# EAGLE library part STM32L476JGY7 (library circuit_tree)
IC
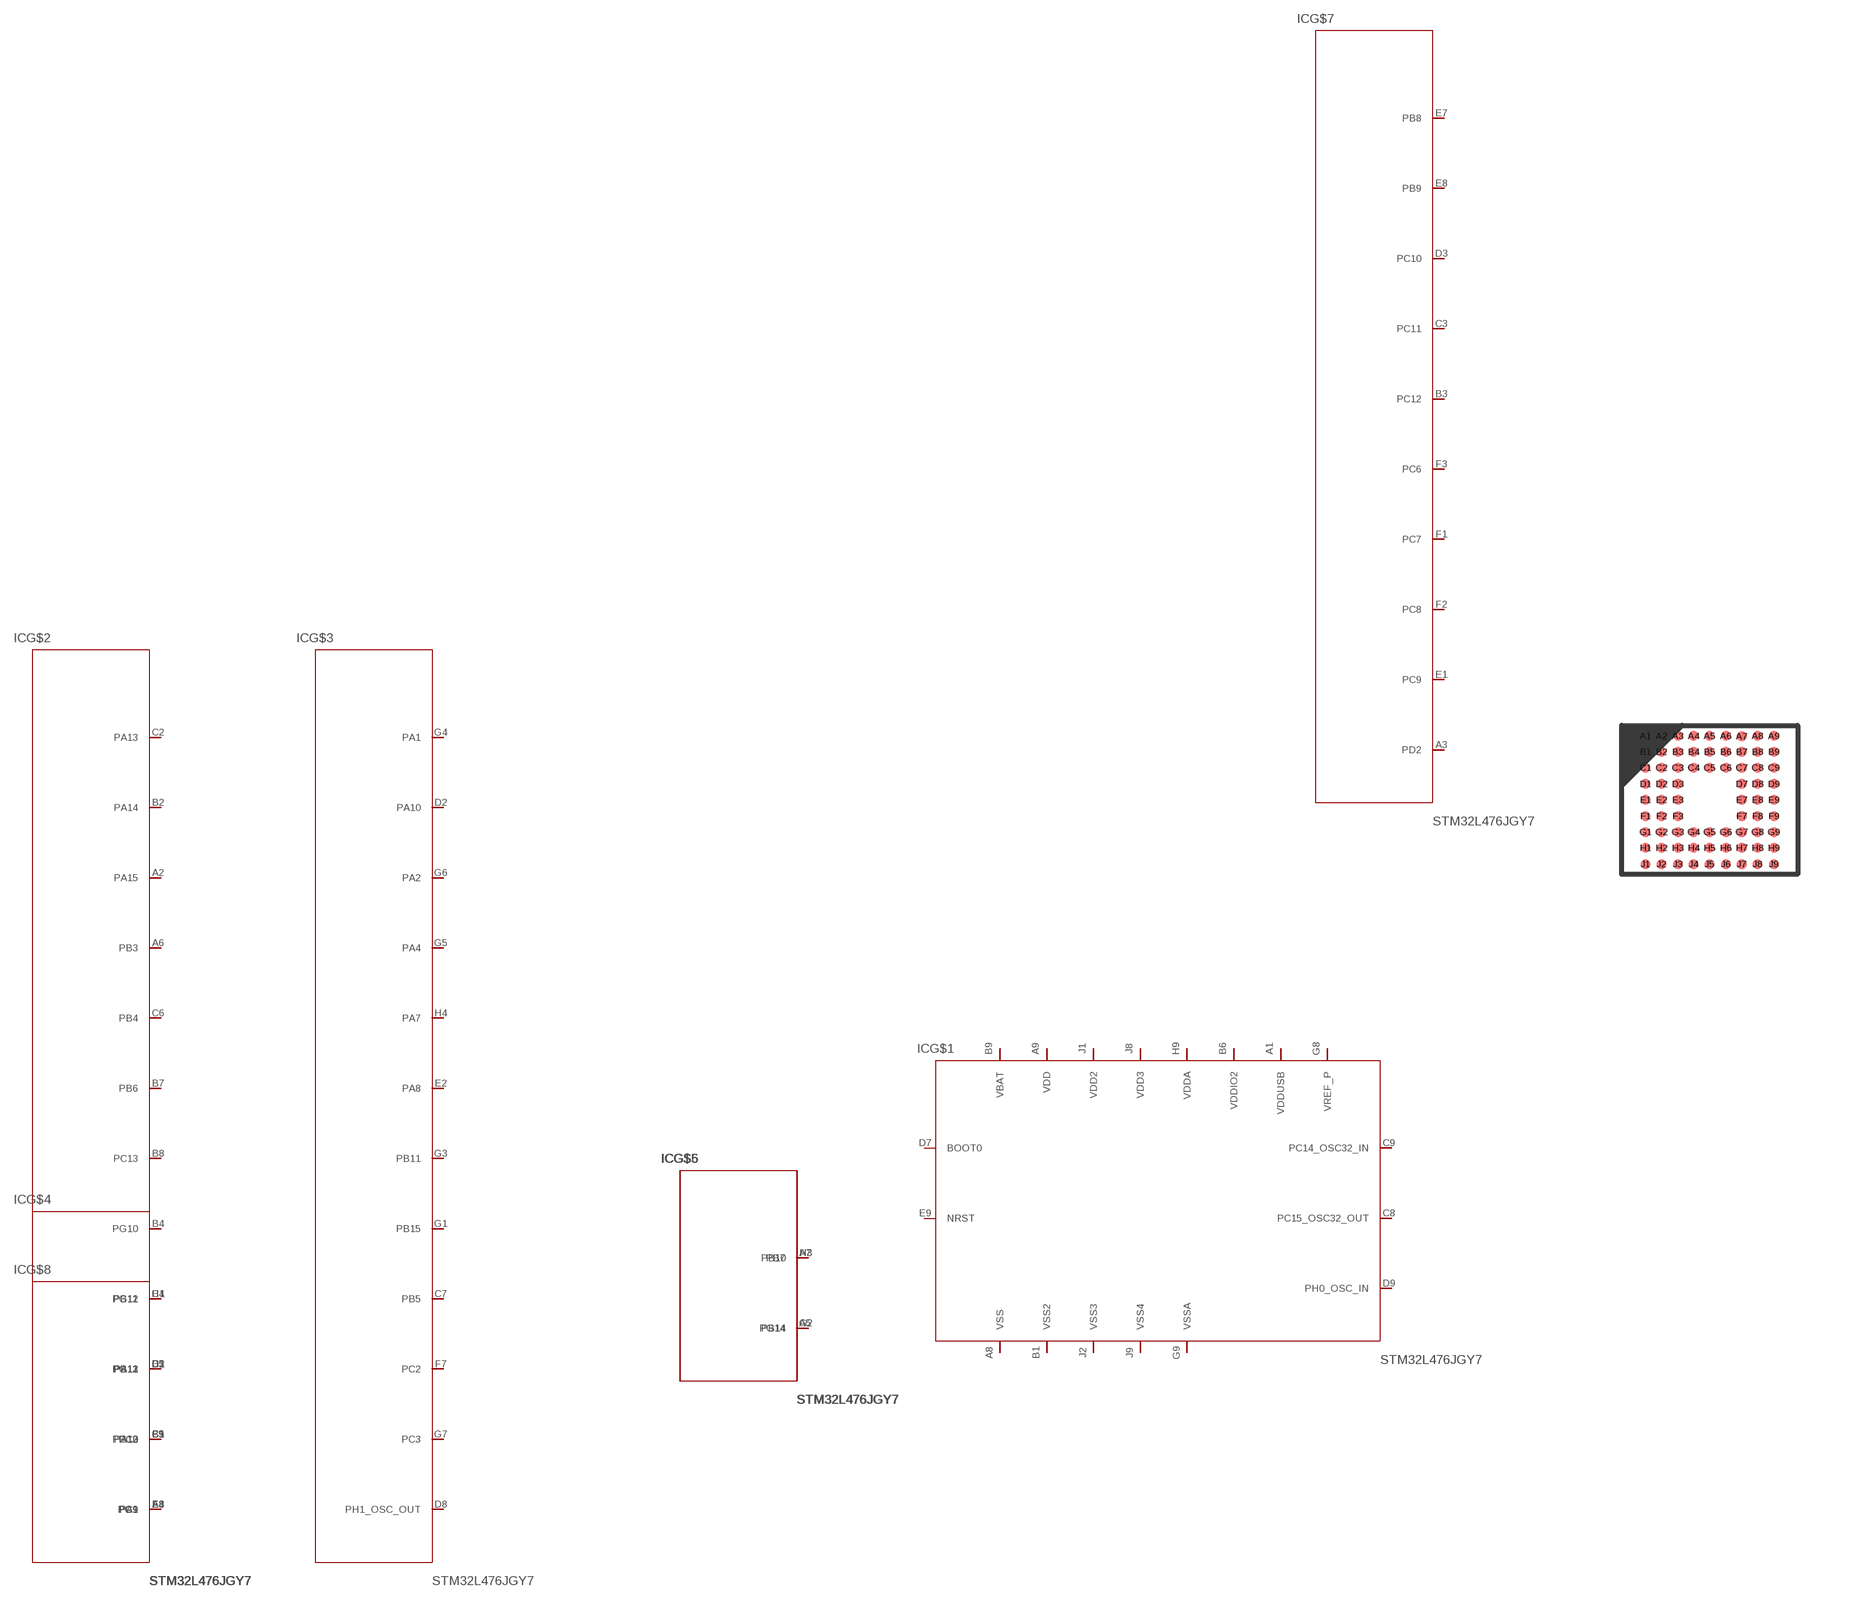
[diagram p6: symbol with the pads of WLCSP72; footprint WLCSP72]

Designator prefix IC; gates G$1=STM32L476JGY7 G$2=STM32L476JGY72 G$3=STM32L476JGY73 G$4=STM32L476JGY74 G$5=STM32L476JGY75 G$6=STM32L476JGY76 G$7=STM32L476JGY77 G$8=STM32L476JGY78

## STM32L476JGY7  [WLCSP72]
A1  G$1:VDDUSB  pas
A2  G$2:PA15  pas
A3  G$7:PD2  pas
A4  G$2:PG9  pas
A5  G$5:PG14  pas
A6  G$2:PB3  pas
A7  G$5:PB7  pas
A8  G$1:VSS  pas
A9  G$1:VDD  pas
B1  G$1:VSS2  pas
B2  G$2:PA14  pas
B3  G$7:PC12  pas
B4  G$2:PG10  pas
B5  G$2:PG13  pas
B6  G$1:VDDIO2  pas
B7  G$2:PB6  pas
B8  G$2:PC13  pas
B9  G$1:VBAT  pas
C1  G$8:PA12  pas
C2  G$2:PA13  pas
C3  G$7:PC11  pas
C4  G$2:PG11  pas
C5  G$2:PG12  pas
C6  G$2:PB4  pas
C7  G$3:PB5  pas
C8  G$1:PC15_OSC32_OUT  pas
C9  G$1:PC14_OSC32_IN  pas
D1  G$8:PA11  pas
D2  G$3:PA10  pas
D3  G$7:PC10  pas
D7  G$1:BOOT0  pas
D8  G$3:PH1_OSC_OUT  pas
D9  G$1:PH0_OSC_IN  pas
E1  G$7:PC9  pas
E2  G$3:PA8  pas
E3  G$8:PA9  pas
E7  G$7:PB8  pas
E8  G$7:PB9  pas
E9  G$1:NRST  pas
F1  G$7:PC7  pas
F2  G$7:PC8  pas
F3  G$7:PC6  pas
F7  G$3:PC2  pas
F8  G$4:PC1  pas
F9  G$4:PC0  pas
G1  G$3:PB15  pas
G2  G$6:PB14  pas
G3  G$3:PB11  pas
G4  G$3:PA1  pas
G5  G$3:PA4  pas
G6  G$3:PA2  pas
G7  G$3:PC3  pas
G8  G$1:VREF_P  pas
G9  G$1:VSSA  pas
H1  G$4:PB12  pas
H2  G$4:PB13  pas
H3  G$6:PB10  pas
H4  G$3:PA7  pas
H9  G$1:VDDA  pas
J1  G$1:VDD2  pas
J2  G$1:VSS3  pas
J8  G$1:VDD3  pas
J9  G$1:VSS4  pas

## Footprint WLCSP72 (pad centres in mm)
WLCSP72 4,4084 x 3,7594 mm, 9 x 9-pin 0.4 mm pitch wafer-level chip-scale package
smd 0.25 x 0.25: A1 -1.597,1.597; A2 -1.201,1.597; A3 -0.794,1.597; A4 -0.397,1.597; A5 0,1.597; A6 0.407,1.597; A7 0.804,1.588; A8 1.201,1.597; A9 1.607,1.597; B1 -1.597,1.201; B2 -1.201,1.201; B3 -0.794,1.201; B4 -0.397,1.201; B5 0,1.201; B6 0.407,1.201; B7 0.804,1.201; B8 1.201,1.201; B9 1.607,1.201; C1 -1.597,0.804; C2 -1.201,0.804; C3 -0.794,0.804; C4 -0.397,0.804; C5 0,0.804; C6 0.407,0.804; C7 0.804,0.804; C8 1.201,0.804; C9 1.607,0.804; D1 -1.597,0.397; D2 -1.201,0.397; D3 -0.794,0.397; D7 0.804,0.397; D8 1.201,0.397; D9 1.607,0.397; E1 -1.597,0; E2 -1.201,0; E3 -0.794,0; E7 0.804,0; E8 1.201,0; E9 1.607,0; F1 -1.597,-0.407; F2 -1.201,-0.407; F3 -0.794,-0.407; F7 0.804,-0.407; F8 1.201,-0.407; F9 1.607,-0.407; G1 -1.597,-0.804; G2 -1.201,-0.804; G3 -0.794,-0.804; G4 -0.397,-0.804; G5 0,-0.804; G6 0.407,-0.804; G7 0.804,-0.804; G8 1.201,-0.804; G9 1.607,-0.804; H1 -1.597,-1.201; H2 -1.201,-1.201; H3 -0.794,-1.201; H4 -0.397,-1.201; H5 0,-1.201; H6 0.407,-1.201; H7 0.804,-1.201; H8 1.201,-1.201; H9 1.607,-1.201; J1 -1.597,-1.607; J2 -1.201,-1.607; J3 -0.794,-1.607; J4 -0.397,-1.607; J5 0,-1.607; J6 0.407,-1.607; J7 0.804,-1.607; J8 1.201,-1.607; J9 1.607,-1.607